# Altium schematic symbol library ESP32-Sense Kit Motherboard.SCHLIB: 20 symbols
Pins are listed as number, name and electrical type; pins without a type are passive.

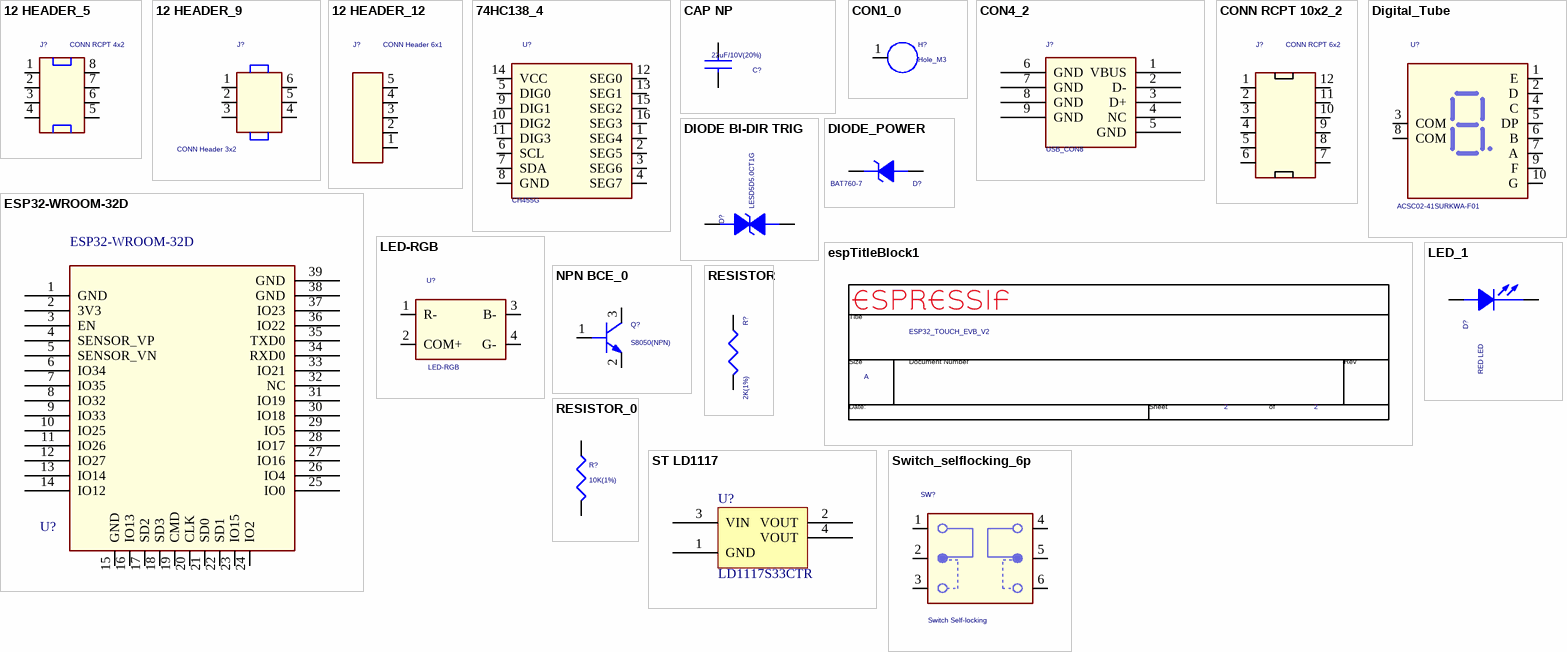
[diagram p0: symbols 12 HEADER_5 to Switch_selflocking_6p]

## 12 HEADER_5
designator J?, comment CONN RCPT 4x2
footprint CON_F_4x2_2P00
pins: 1, 2, 3, 4, 5, 6, 7, 8

## 12 HEADER_9
designator J?, comment CONN Header 3x2
footprint DC3-6P-1P27
pins: 1, 2, 3, 4, 5, 6

## 12 HEADER_12
designator J?, comment CONN Header 6x1
footprint CON_5x1_2P54
pins: 1, 2, 3, 4, 5

## 74HC138_4
designator U?, comment CH455G
footprint SOP16-150MIL
pins: 1 SEG4, 2 SEG5, 3 SEG6, 4 SEG7, 5 DIG0, 6 SCL, 7 SDA, 8 GND, 9 DIG1, 10 DIG2, 11 DIG3, 12 SEG0, 13 SEG1, 14 VCC, 15 SEG2, 16 SEG3

## CAP NP
designator C?, comment 22uF/10V(20%)
footprint 0603C
pins: 1, 2

## CON1_0
designator H?, comment Hole_M3
footprint MTGH200C125D-N
pins: 1

## CON4_2
designator J?, comment USB_CON8
footprint USB_5P
pins: 1 VBUS (power), 2 D-, 3 D+, 4 NC, 5 GND (power), 6 GND (power), 7 GND (power), 8 GND (power), 9 GND (power)

## CONN RCPT 10x2_2
designator J?, comment CONN RCPT 6x2
footprint CON_F_6x2_2P00
pins: 1, 2, 3, 4, 5, 6, 7, 8, 9, 10, 11, 12

## Digital_Tube
designator U?, comment ACSC02-41SURKWA-F01
Part Number: ACSC02-41SURKWA-F01
footprint DG10069
footprint DGT10069
pins: 1 E, 2 D, 3 COM, 4 C, 5 DP, 6 B, 7 A, 8 COM, 9 F, 10 G

## DIODE BI-DIR TRIG
designator D?, comment LESD5D5.0CT1G
footprint ESD0402
footprint SOD-523
pins: 1, 2

## DIODE_POWER
designator D?, comment BAT760-7
footprint SOD-323
pins: 1, 2

## ESP32-WROOM-32D
designator U?
IC: SoC; GPIO, I2C, I2S, IR, SD, SDIO, SPI, UART; 2.7Ã·3.6VDC; 20dBm; MF: Espressif Systems; Package: Module Espressif Systems; Price: None; Availability: Unavailable; MP: ESP32-WROOM-32D; SnapEDA_Link: https://www.snapeda.com/parts/ESP32-WROOM-32D/Espressif%20Systems/view-part/?ref=snap; Value: *
footprint *MODULE_ESP32-WROOM-32D
pins: 1 GND (power), 2 3V3 (power), 3 EN, 4 SENSOR_VP, 5 SENSOR_VN, 6 IO34, 7 IO35, 8 IO32, 9 IO33, 10 IO25, 11 IO26, 12 IO27, 13 IO14, 14 IO12, 15 GND (power), 16 IO13, 17 SD2, 18 SD3, 19 CMD, 20 CLK, 21 SD0, 22 SD1, 23 IO15, 24 IO2, 25 IO0, 26 IO4, 27 IO16, 28 IO17, 29 IO5, 30 IO18, 31 IO19, 32 NC, 33 IO21, 34 RXD0, 35 TXD0, 36 IO22, 37 IO23, 38 GND, 39 GND (power)

## espTitleBlock1
designator *?  Title: ESP32_TOUCH_EVB_V2  Page Size: A  Page Number: 2  (hidden comment: espTitleBlock1)  (graphical)
Page Create Date: March  8, 1995; Page Count: 2
text: Title; Size; Document Number; Rev; Date:; Sheet; of

## LED-RGB
designator U?
footprint LED3528
footprint LED3528-4
pins: 1 R-, 2 COM+, 3 B-, 4 G-

## LED_1
designator D?, comment RED LED
footprint 0603D/A
pins: 1 ANODE, 2 CATHODE

## NPN BCE_0
designator Q?, comment S8050(NPN)
PspiceTemplate: Q^@REFDES %C %B %E
simulation model NPN BCE_0
footprint SOT-23-3
pins: 1 B, 2 E, 3 C

## RESISTOR
designator R?, comment 2K(1%)
footprint 0402R
pins: 1, 2

## RESISTOR_0
designator R?, comment 10K(1%)
footprint 0402R
pins: 1, 2

## ST LD1117
designator U?, comment LD1117S33CTR
IC REG LDO 3.3V 0.8A SOT223; Manufacturer: STMicroelectronics; Topology: Positive Fixed; Voltage Dropout: 1.1V @ 800mA; Voltage - Input: Up to 15V; Part Number: LD1117S33CTR; PartId: 7963; Supplier 1: Digi-Key; Supplier Part Number 1: 497-1241-2-ND; ComponentLink1Description: Datasheet; ComponentLink1URL: http://www.st.com/web/en/resource/technical/document/datasheet/CD00000544.pdf; ComponentLink2Description: Digi-Key Listing; ComponentLink2URL: http://www.digikey.com/product-detail/en/LD1117S33CTR/497-1241-2-ND/585765; Price: 0.127; Device Package: TO-261-4, TO-261AA; Voltage - Output: 3.3V; Current - Limit (Min): -; Operating Temperature: -40C ~ 125C
footprint ST SOT-223
pins: 1 GND, 2 VOUT, 3 VIN, 4 VOUT

## Switch_selflocking_6p
designator SW?, comment Switch Self-locking
footprint SW5858-6
pins: 1 NC1, 2 COM1, 3 NO1, 4 NC2, 5 COM2, 6 NO2